# Altium footprint library TSSOP-28_L9.7-W4.4-P0.65-LS6.4-BL-EP4.8.PcbLib: 1 footprints
Each footprint in its own frame and in the unit in brackets; x right, y up, seen from the top. Pads: shape width x height; smd on the part's side, far side on the other; paste and mask are expansions set on the pad; w line width, h text height; cw(c..) or ccw(c..) is an arc to the next point about the centre after c.
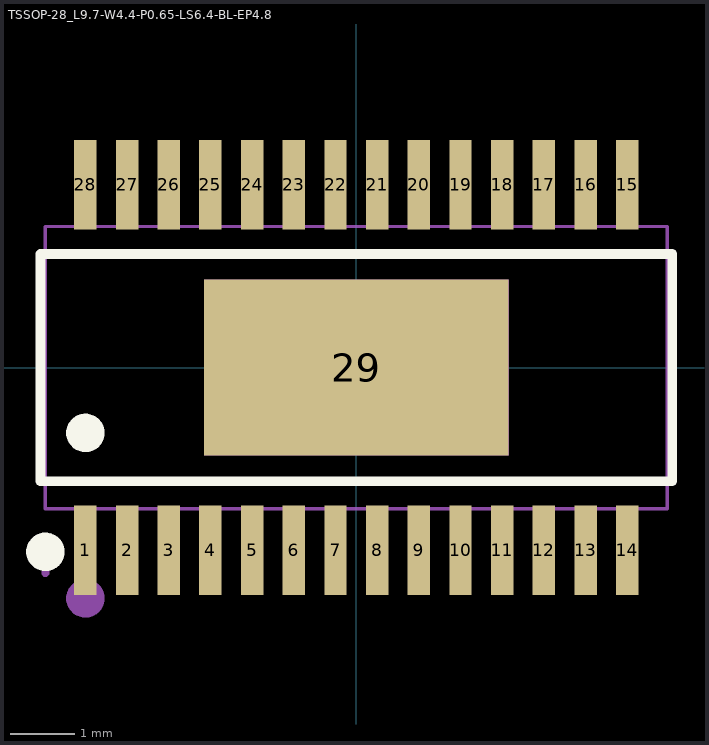
[diagram p0: the footprint, top view; thin cyan lines are the x and y axes]

## TSSOP-28_L9.7-W4.4-P0.65-LS6.4-BL-EP4.8 [mm]
pads (29):
  rect 0.35x1.4 smd: 1(-4.225,-2.85) 2(-3.575,-2.85) 3(-2.925,-2.85) 4(-2.275,-2.85) 5(-1.625,-2.85) 6(-0.975,-2.85) 7(-0.325,-2.85) 8(0.325,-2.85) 9(0.975,-2.85) 10(1.625,-2.85) 11(2.275,-2.85) 12(2.925,-2.85) 13(3.575,-2.85) 14(4.225,-2.85) 15(4.225,2.85) 16(3.575,2.85) 17(2.925,2.85) 18(2.275,2.85) 19(1.625,2.85) 20(0.975,2.85) 21(0.325,2.85) 22(-0.325,2.85) 23(-0.975,2.85) 24(-1.625,2.85) 25(-2.275,2.85) 26(-2.925,2.85) 27(-3.575,2.85) 28(-4.225,2.85)
  rect 4.75x2.74 smd paste+0 mask+0.05: 29(0,0)
Top Overlay:
  circle w0.3: c-4.225,-1.019 r0.15
  circle w0.3: c-4.849,-2.873 r0.15
  lines w0.152: -4.926,-1.771 4.926,-1.771 4.926,1.772 -4.926,1.772 -4.926,-1.771
Mechanical 6:
  circle w0.3: c-4.225,-3.6 r0.15
Mechanical 15:
  drawing of 62 lines, arcs and shapes, not listed